# EAGLE library part SL-SW-2P-4T (library sw)
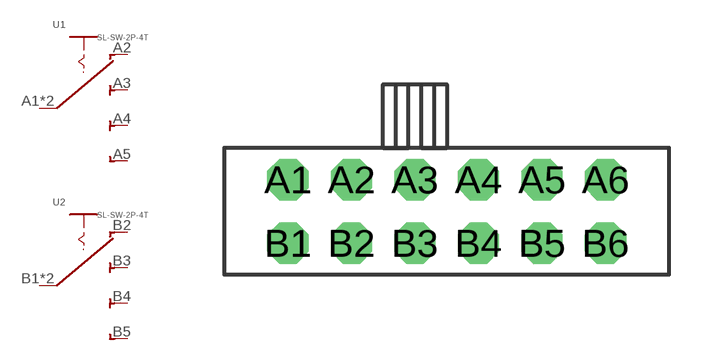
[diagram p3: symbol with the pads of SLSW-2P4T-2-H; footprint SLSW-2P4T-2-H]

Designator prefix -; gates 1=SW-1P4T 2=SW-1P4T

## SL-SW-2P-4T  [SLSW-2P4T-2-H]
A1  1:P  pas
A2  1:A  pas
A3  1:B  pas
A4  1:C  pas
A5  1:D  pas
A6  1:P  pas
B1  2:P  pas
B2  2:A  pas
B3  2:B  pas
B4  2:C  pas
B5  2:D  pas
B6  2:P  pas

## SL-SW-2P-4T-A  [SLSW-2P4T-2-H]
A1  1:P  pas
A2  1:A  pas
A3  1:B  pas
A4  1:C  pas
A5  1:D  pas
B1  2:P  pas
B2  2:A  pas
B3  2:B  pas
B4  2:C  pas
B5  2:D  pas

## SL-SW-2P-4T-B  [SLSW-2P4T-2-H]
A2  1:D  pas
A3  1:C  pas
A4  1:B  pas
A5  1:A  pas
A6  1:P  pas
B2  2:D  pas
B3  2:C  pas
B4  2:B  pas
B5  2:A  pas
B6  2:P  pas

## Footprint SLSW-2P4T-2-H (pad centres in mm)
drill 1.1 pad 1.524 octagon: A1 -6.35,1.27; A2 -3.81,1.27; A3 -1.27,1.27; A4 1.27,1.27; A5 3.81,1.27; A6 6.35,1.27; B1 -6.35,-1.27; B2 -3.81,-1.27; B3 -1.27,-1.27; B4 1.27,-1.27; B5 3.81,-1.27; B6 6.35,-1.27